# Altium footprint library SOT-223.PcbLib: 1 footprints
Each footprint in its own frame and in the unit in brackets; x right, y up, seen from the top. Pads: shape width x height; smd on the part's side, far side on the other; paste and mask are expansions set on the pad; w line width, h text height; cw(c..) or ccw(c..) is an arc to the next point about the centre after c.
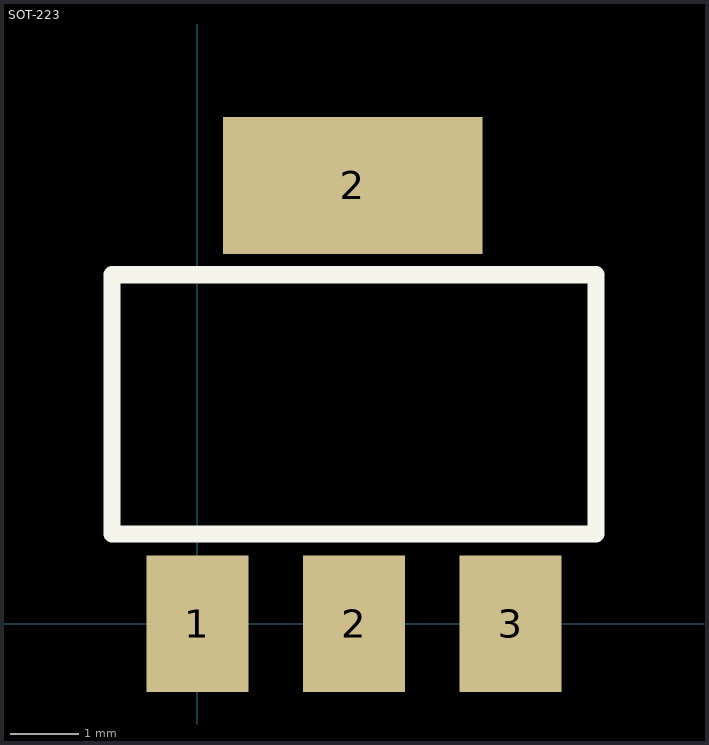
[diagram p0: the footprint, top view; thin cyan lines are the x and y axes]

## SOT-223 [mil]
pads (4):
  rect 59x79 smd: 1(0,0) 2(90.55,0) 3(181.1,0)
  rect 150x79 smd: 2(89.88,253.54)
TopOverlay:
  lines w10: -49.45,52 -49.45,202 230.55,202 230.55,52 -49.45,52
Mechanical4:
  text ".060" at 0,0 h1
  text ".065" at 0.1,0 h1
3D body: height 63.59, standoff -2.35, extent -36.7,-3.13 219.2,269.79